# Altium schematic symbol library Logic.SchLib: 13 symbols (part 1 of 4)
Pins are listed as number, name and electrical type; pins without a type are passive.

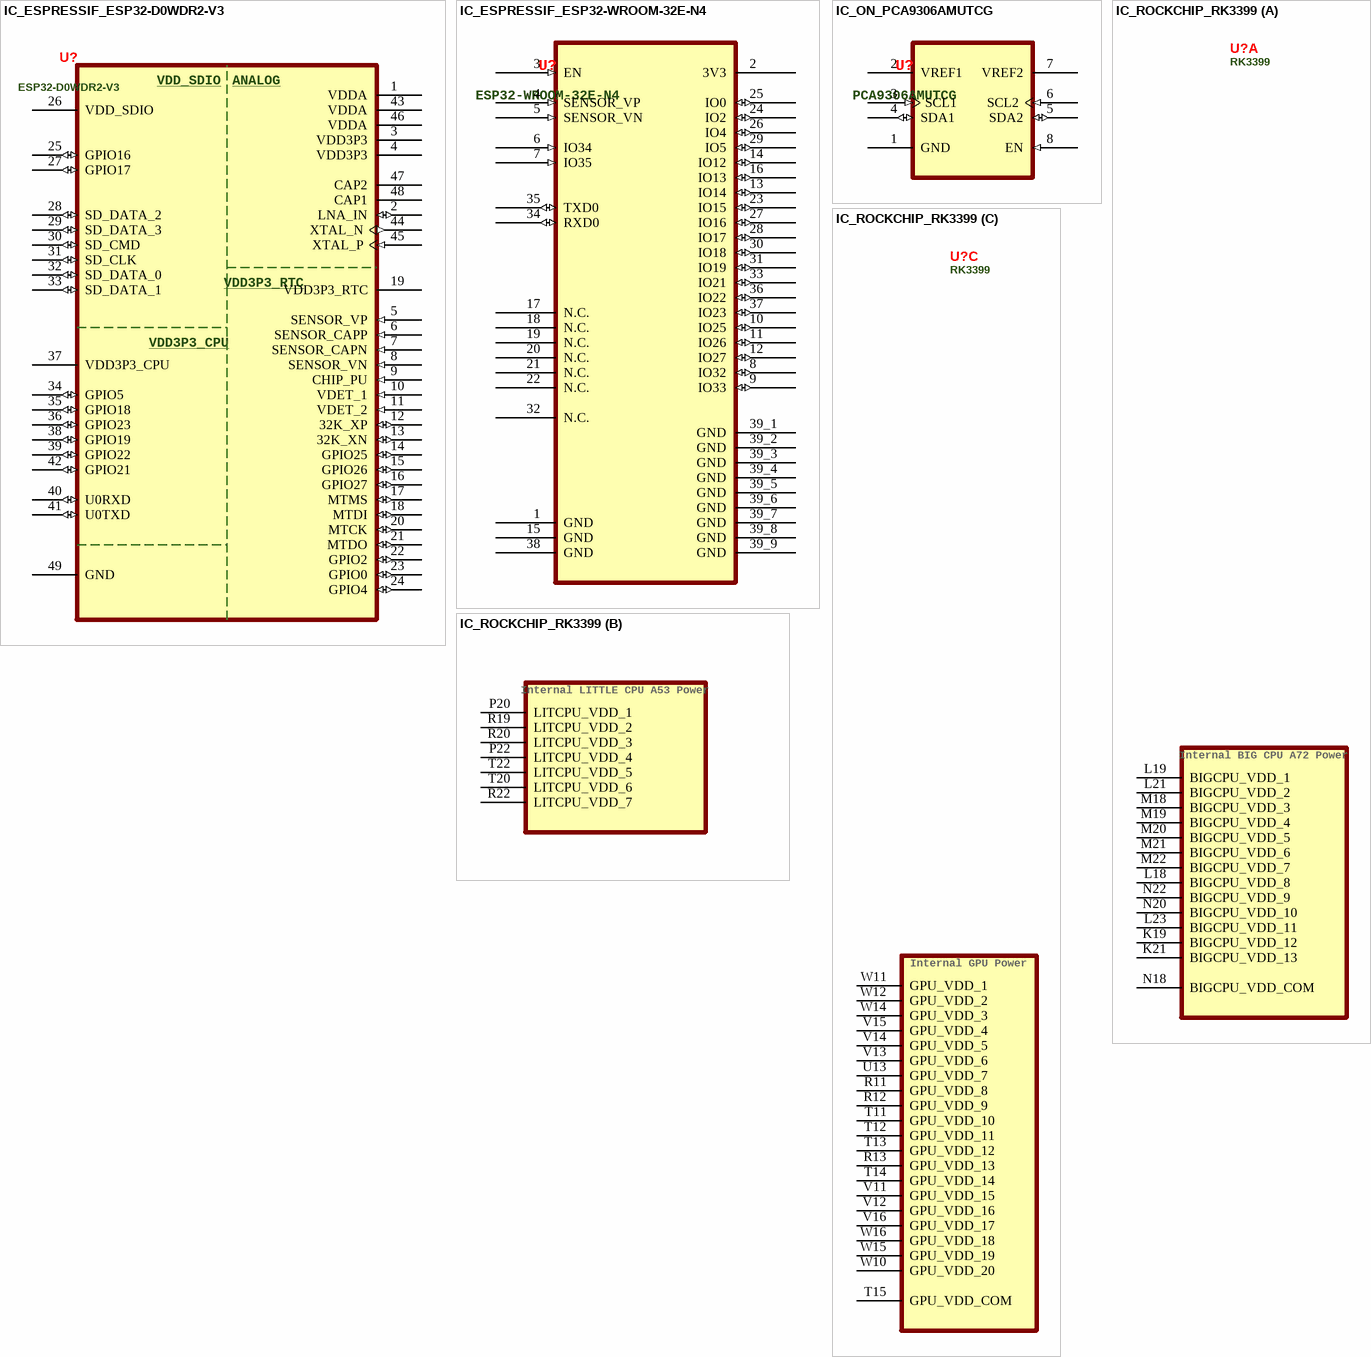
[diagram p0: symbols IC_ESPRESSIF_ESP32-D0WDR2-V3 to IC_ROCKCHIP_RK3399]

## IC_ESPRESSIF_ESP32-D0WDR2-V3
designator U?, comment ESP32-D0WDR2-V3
IC RF TxRx + MCU Bluetooth, WiFi 802.11b/g/n, Bluetooth v4.2 + EDR, Class 1, 2 and 3 2.4GHz 48-VFQFN Exposed Pad; Manufacturer: Espressif Systems; Manufacturer Part Number: ESP32-D0WDR2-V3; Category: RF Transceiver ICs; Min Operating Temperature: -40°C; Max Operating Temperature: 125°C; Case/Package: 48-QFN (5x5); Supplier 1: Digi-Key; Supplier Part Number 1: 1904-ESP32-D0WDR2-V3CT-ND; ComponentLink1Description: Datasheet; ComponentLink1URL: https://www.espressif.com/sites/default/files/documentation/esp32_datasheet_en.pdf
footprint QFN35P500X500X90_HS-49N (QFN, 48-Leads, Body 5.00x5.00mm, Pitch 0.35mm, Thermal Pad 3.70x3.70mm, IPC Medium Density)
footprint QFN35P500X500X90_HS-49L (QFN, 48-Leads, Body 5.00x5.00mm, Pitch 0.35mm, Thermal Pad 3.70x3.70mm, IPC High Density)
footprint QFN35P500X500X90_HS-49M (QFN, 48-Leads, Body 5.00x5.00mm, Pitch 0.35mm, Thermal Pad 3.70x3.70mm, IPC Low Density)
pins: 1 VDDA (power) "Analog power supply (2.3V ~ 3.6V)", 2 LNA_IN (io) "RF input and output", 3 VDD3P3 (power) "Analog power supply (2.3V ~ 3.6V)", 4 VDD3P3 (power) "Analog power supply (2.3V ~ 3.6V)", 5 SENSOR_VP (in) "GPIO36 / ADC1_CH0 / RTC_GPIO0", 6 SENSOR_CAPP (in) "GPIO37 / ADC1_CH1 / RTC_GPIO1", 7 SENSOR_CAPN (in) "GPIO38 / ADC1_CH2 / RTC_GPIO2", 8 SENSOR_VN (in) "GPIO39 / ADC1_CH3 / RTC_GPIO3", 9 CHIP_PU (in) "High: On (enables chip) - Low: Off (chip powers off) - Do not leave pin floating", 10 VDET_1 (in) "GPIO34 / ADC1_CH6 / RTC_GPIO4", 11 VDET_2 (in) "GPIO35 / ADC1_CH7 / RTC_GPIO5", 12 32K_XP (io) "GPIO32 / ADC1_CH4 / RTC_GPIO9 / TOUCH9 / 32.768kHz in)", 13 32K_XN (io) "GPIO33 / ADC1_CH5 / RTC_GPIO8 / TOUCH8 / 32.768kHz out)", 14 GPIO25 (io) "GPIO25 / ADC2_CH8 / RTC_GPIO6 / DAC_1 / EMAC_RXD0", 15 GPIO26 (io) "GPIO26 / ADC2_CH9 / RTC_GPIO7 / DAC_2 / EMAC_RXD1", 16 GPIO27 (io) "GPIO27 / ADC2_CH7 / RTC_GPIO17 / TOUCH7 / EMAC_RX_DV", 17 MTMS (io) "GPIO14 / ADC2_CH6 / RTC_GPIO16 / TOUCH6 / EMAC_TXD2 / HSPICLK / HS2_CLK / SD_CLK / MTMS", 18 MTDI (io) "GPIO12 / ADC2_CH5 / RTC_GPIO15 / TOUCH5 / EMAC_TXD3 / HSPIQ / HS2_DATA2 / SD_DATA2 / MTDI", 19 VDD3P3_RTC (power) "Input power supply for RTC IO (2.3V ~ 3.6V)", 20 MTCK (io) "GPIO13 / ADC2_CH4 / RTC_GPIO14 / TOUCH4 / EMAC_RX_ER / HSPID / HS2_DATA3 / SD_DATA3 / MTCK", 21 MTDO (io) "GPIO15 / ADC2_CH3 / RTC_GPIO13 / TOUCH3 / EMAC_RXD3 / HSPICS0 / HS2_CMD / SD_CMD / MTDO", 22 GPIO2 (io) "GPIO2 / ADC2_CH2 / RTC_GPIO12 / TOUCH2 / HSPIWP / HS2_DATA0 / SD_DATA0", 23 GPIO0 (io) "GPIO0 / ADC2_CH1 / RTC_GPIO11 / TOUCH1 / EMAC_TX_CLK / CLK_OUT1", 24 GPIO4 (io) "GPIO4 / ADC2_CH0 / RTC_GPIO10 / TOUCH0 / EMAC_TX_ER / HSPIHD / HS2_DATA1 / SD_DATA1", 25 GPIO16 (io) "GPIO16 / HS1_DATA4 / U2RXD / EMAC_CLK_OUT", 26 VDD_SDIO (power) "Output power supply; 1.8V or the same voltage as VDD3P3_RTC", 27 GPIO17 (io) "GPIO17 / HS1_DATA5 / U2TXD / EMAC_CLK_OUT_180", 28 SD_DATA_2 (io) "GPIO9 / HS1_DATA2 / U1RXD / SD_DATA2 / SPIHD", 29 SD_DATA_3 (io) "GPIO10 / HS1_DATA3 / U1TXD / SD_DATA3 / SPIWP", 30 SD_CMD (io) "GPIO11 / HS1_CMD / U1RTS / SD_CMD / SPICS0", 31 SD_CLK (io) "GPIO6 / HS1_CLK / U1CTS / SD_CLK / SPICLK", 32 SD_DATA_0 (io) "GPIO7 / HS1_DATA0 / U2RTS / SD_DATA0 / SPIQ", 33 SD_DATA_1 (io) "GPIO8 / HS1_DATA1 / U2CTS / SD_DATA1 / SPID", 34 GPIO5 (io) "GPIO5 / HS1_DATA6 / VSPICS0 / EMAC_RX_CLK", 35 GPIO18 (io) "GPIO18 / HS1_DATA7 / VSPICLK", 36 GPIO23 (io) "GPIO23 / HS1_STROBE / VSPID", 37 VDD3P3_CPU (power) "Input power supply for CPU IO (1.8V ~ 3.6V)", 38 GPIO19 (io) "GPIO19 / U0CTS / VSPIQ / EMAC_TXD0", 39 GPIO22 (io) "GPIO22 / U0RTS / VSPIWP / EMAC_TXD1", 40 U0RXD (io) "GPIO3 / U0RXD / CLK_OUT2", 41 U0TXD (io) "GPIO1 / U0TXD / CLK_OUT3 / EMAC_RXD2", 42 GPIO21 (io) "GPIO21 / VSPIHD / EMAC_TX_EN", 43 VDDA (power) "Analog power supply (2.3V ~ 3.6V)", 44 XTAL_N (out) "External crystal output", 45 XTAL_P (in) "External crystal input", 46 VDDA (power) "Analog power supply (2.3V ~ 3.6V)", 47 CAP2 "Connects to a 3.3nF (10%) capacitor and 20kΩ resistor in parallel to CAP1", 48 CAP1 "Connects to a 10nF series capacitor to ground", 49 GND (power) "Ground"
text: ANALOG

## IC_ESPRESSIF_ESP32-WROOM-32E-N4
designator U?, comment ESP32-WROOM-32E-N4
Bluetooth, WiFi 802.11b/g/n, Bluetooth v4.2 +EDR, Class 1, 2 and 3 Transceiver Module 2.4GHz ~ 2.5GHz Integrated, Trace Surface Mount; Manufacturer: Espressif Systems; Manufacturer Part Number: ESP32-WROOM-32E-N4; Category: RF Transceiver ICs; Case/Package: 38-SMD Module; ComponentLink1Description: Datasheet; ComponentLink1URL: https://www.espressif.com/sites/default/files/documentation/esp32-wroom-32e_esp32-wroom-32ue_datasheet_en.pdf; Max Operating Temperature: 85°C; Min Operating Temperature: -40°C; Supplier 1: Digi-Key; Supplier Part Number 1: 1965-ESP32-WROOM-32E-N4CT-ND; Supplier 2: Mouser; Supplier Part Number 2: 356-ESP32WRM32E132PH
footprint IC_ESPRESSIF_ESP32-WROOM-32E (Module ESP32-WROOM-32E)
pins: 1 GND (power) "Ground", 2 3V3 (power) "Power Supply", 3 EN (in) "High: On (enables chip) - Low: Off (chip powers off) - Do not leave pin floating", 4 SENSOR_VP (in) "GPIO36 / ADC1_CH0 / RTC_GPIO0", 5 SENSOR_VN (in) "GPIO39 / ADC1_CH3 / RTC_GPIO3", 6 IO34 (in) "GPIO34 / ADC1_CH6 / RTC_GPIO4", 7 IO35 (in) "GPIO35 / ADC1_CH7 / RTC_GPIO5", 8 IO32 (io) "GPIO32 / XTAL_32K_P / ADC1_CH4 / TOUCH9 / RTC_GPIO9", 9 IO33 (io) "GPIO33 / XTAL_32K_N / ADC1_CH5 / TOUCH8 / RTC_GPIO8", 10 IO25 (io) "GPIO25 / DAC_1 / ADC2_CH8 / RTC_GPIO6 / EMAC_RXD0", 11 IO26 (io) "GPIO26 / DAC_2 / ADC2_CH9 / RTC_GPIO7 / EMAC_RXD1", 12 IO27 (io) "GPIO27 / ADC2_CH7 / TOUCH7 / RTC_GPIO17 / EMAC_RX_DV", 13 IO14 (io) "GPIO14 / ADC2_CH6 / TOUCH6 / RTC_GPIO16 / MTMS / HSPICLK / HS2_CLK / SD_CLK / EMAC_TXD2", 14 IO12 (io) "GPIO12 / ADC2_CH5 / TOUCH5 / RTC_GPIO15 / MTDI / HSPIQ / HS2_DATA2 / SD_DATA2 / EMAC_TXD3", 15 GND (power) "Ground", 16 IO13 (io) "GPIO13 / ADC2_CH4 / TOUCH4 / RTC_GPIO14 / MTCK / HSPID / HS2_DATA3 / SD_DATA3 / EMAC_RX_ER", 17 N.C. "Not Connected", 18 N.C. "Not Connected", 19 N.C. "Not Connected", 20 N.C. "Not Connected", 21 N.C. "Not Connected", 22 N.C. "Not Connected", 23 IO15 (io) "GPIO15 / ADC2_CH3 / TOUCH3 / MTDO / HSPICS0 / RTC_GPIO13 / HS2_CMD / SD_CMD / EMAC_RXD3", 24 IO2 (io) "GPIO2 / ADC2_CH2 / TOUCH2 / RTC_GPIO12 / HSPIWP / HS2_DATA0 / SD_DATA0", 25 IO0 (io) "GPIO0 / ADC2_CH1 / TOUCH1 / RTC_GPIO11 / CLKOUT1 / EMAC_TX_CLK", 26 IO4 (io) "GPIO4 / ADC2_CH0 / TOUCH0 / RTC_GPIO10 / HSPIHD / HS2_DATA1 / SD_DATA1 / EMAC_TX_ER", 27 IO16 (io) "GPIO16 / HS!_DATA4 / U2RXD / EMAC_CLK_OUT", 28 IO17 (io) "GPIO17 / HS!_DATA5 / U2TXD / EMAC_CLK_OUT_180", 29 IO5 (io) "GPIO5 / VSPICS0 , HS1_DATA6 / EMAC_RX_CLK", 30 IO18 (io) "GPIO18 / VSPICLK / HS1_DATA7", 31 IO19 (io) "GPIO19 / VSPIQ / U0CTS / EMAC_TXD0", 32 N.C. "Not Connected", 33 IO21 (io) "GPIO21 / VSPIHD / EMAC_TX_EN", 34 RXD0 (io) "GPIO3 / U0RXD / CLK_OUT2", 35 TXD0 (io) "GPIO1 / U0TXD / CLK_OUT3 / EMAC_RXD2", 36 IO22 (io) "GPIO22 / VSPIWP / U0RTS / EMAC_TXD1", 37 IO23 (io) "GPIO23 / VSPID / HS1_STROBE", 38 GND (power) "Ground", 39_1 GND (power) "Ground", 39_2 GND (power) "Ground", 39_3 GND (power) "Ground", 39_4 GND (power) "Ground", 39_5 GND (power) "Ground", 39_6 GND (power) "Ground", 39_7 GND (power) "Ground", 39_8 GND (power) "Ground", 39_9 GND (power) "Ground"

## IC_ON_PCA9306AMUTCG
designator U?, comment PCA9306AMUTCG
Voltage Level Translator Bidirectional 1 Circuit 2 Channel 8-UQFN (1.6x1.6); Manufacturer: ON Semiconductor; Max Power Dissipation: 883mW; Max Supply Voltage: 5.5V; Min Supply Voltage: 0V; Propagation Delay: 3.3ns; Number of Circuits: 1; Turn-On Delay Time: 2.5ns; Manufacturer Part Number: PCA9306AMUTCG; Category: Voltage Level Shifters; Min Operating Temperature: -55°C; Max Operating Temperature: 125°C; Logic Function: Translator; Channel Type: Bidirectional; RoHS Compliant: Yes; Case/Package: 8-UQFN (1.6x1.6); Supplier 1: Digi-Key; Supplier Part Number 1: PCA9306AMUTCGOSCT-ND; Supplier 2: Mouser; Supplier Part Number 2: 863-PCA9306AMUTCG; ComponentLink1Description: Datasheet; ComponentLink1URL: https://www.onsemi.com/pdf/datasheet/pca9306-d.pdf
footprint IC_ON_PCA9306AMUTCG (Voltage Level Translator Bidirectional 1 Circuit 2 Channel 8-UQFN (1.6x1.6))
pins: 1 GND (power), 2 VREF1 (power), 3 SCL1 (in), 4 SDA1 (io), 5 SDA2 (io), 6 SCL2 (in), 7 VREF2 (power), 8 EN (in)

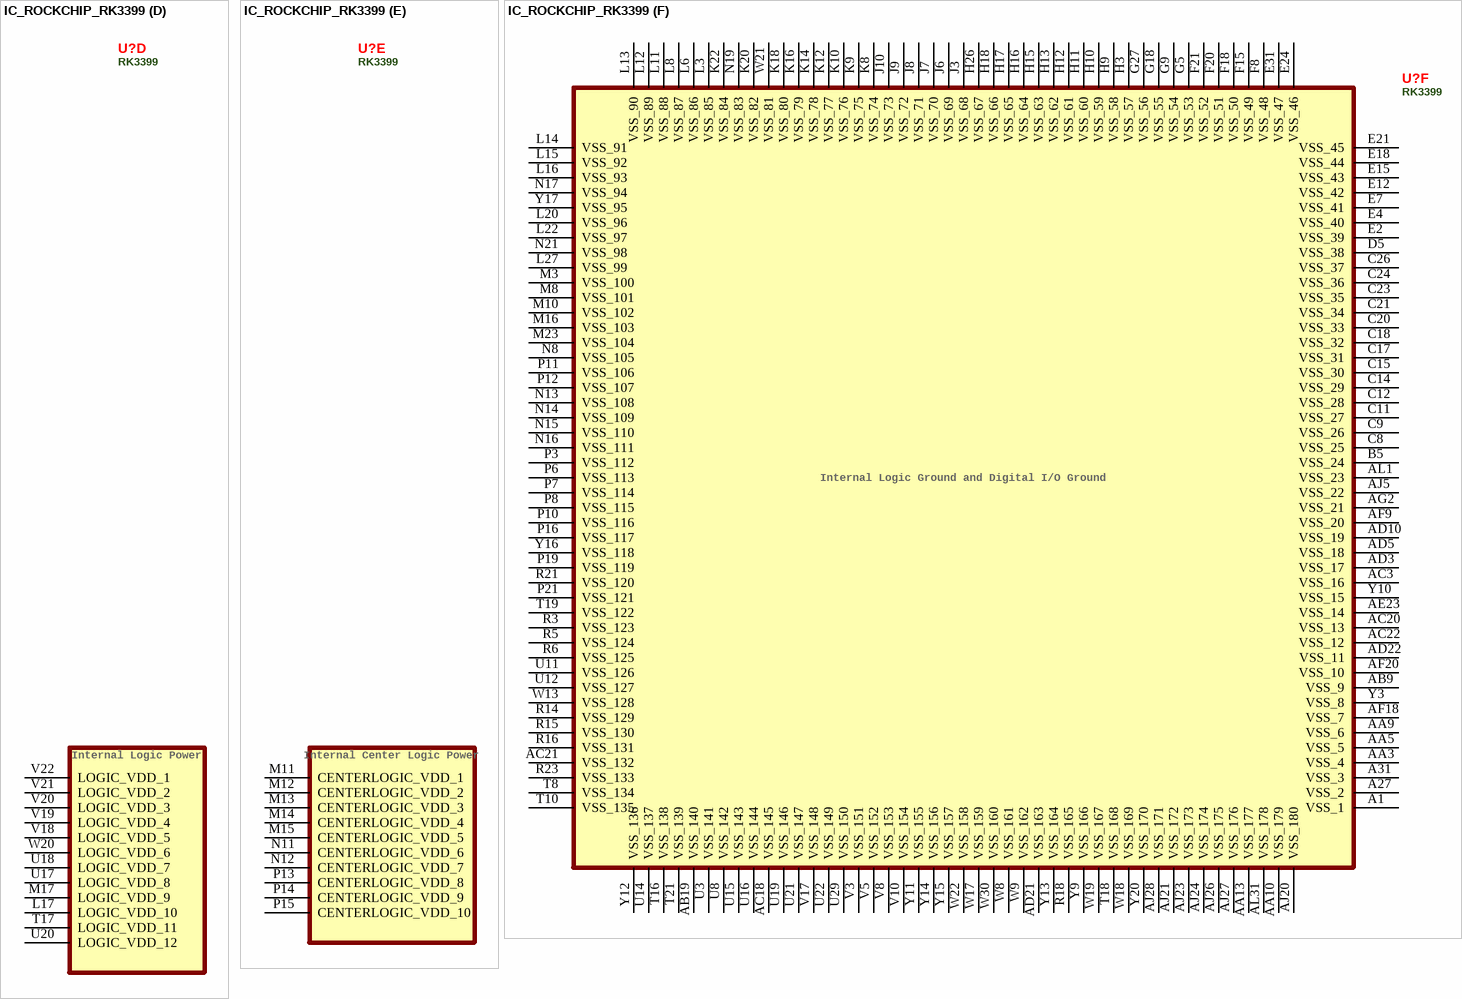
[diagram p1: symbol IC_ROCKCHIP_RK3399]

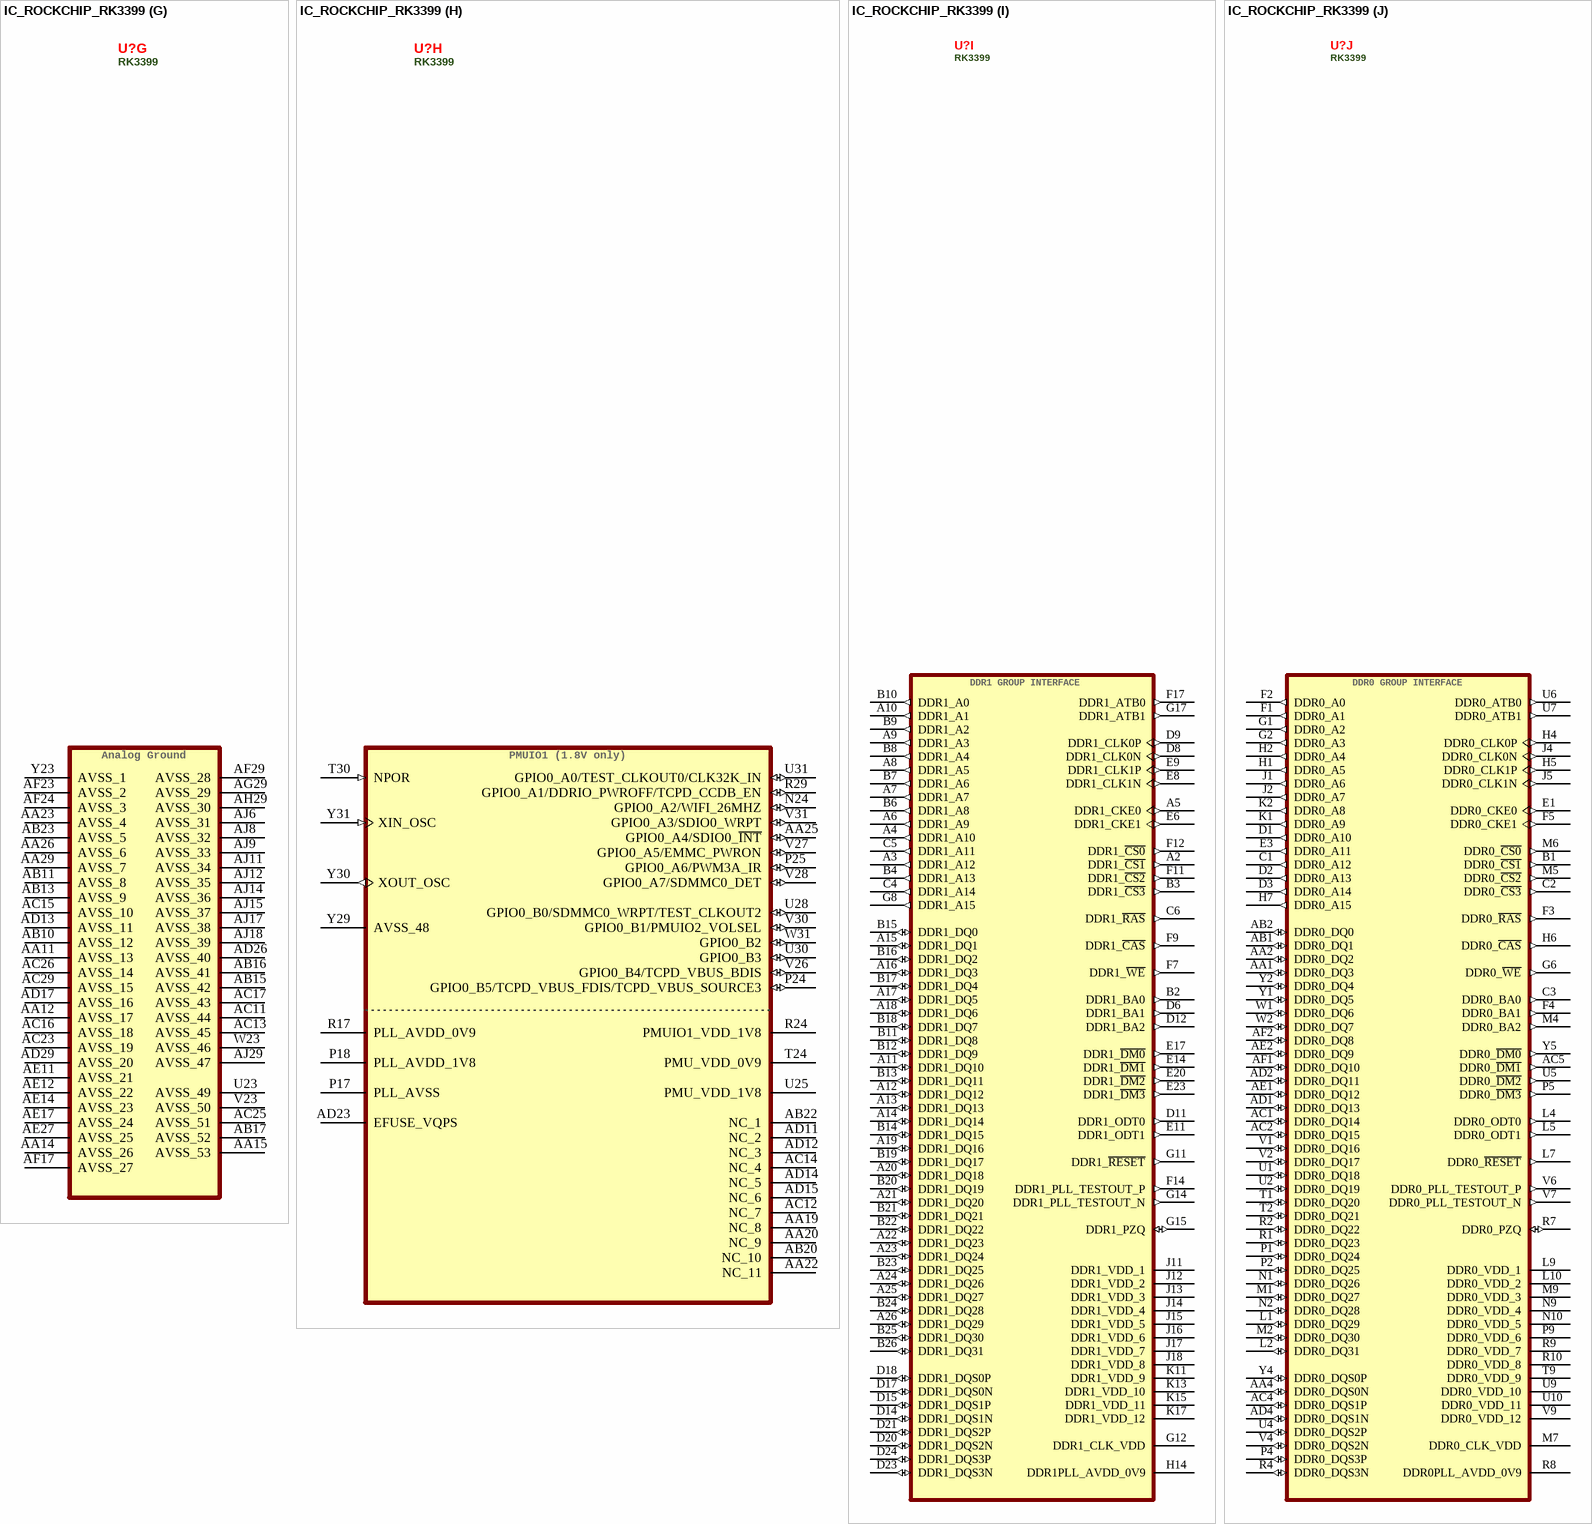
[diagram p2: symbol IC_ROCKCHIP_RK3399]

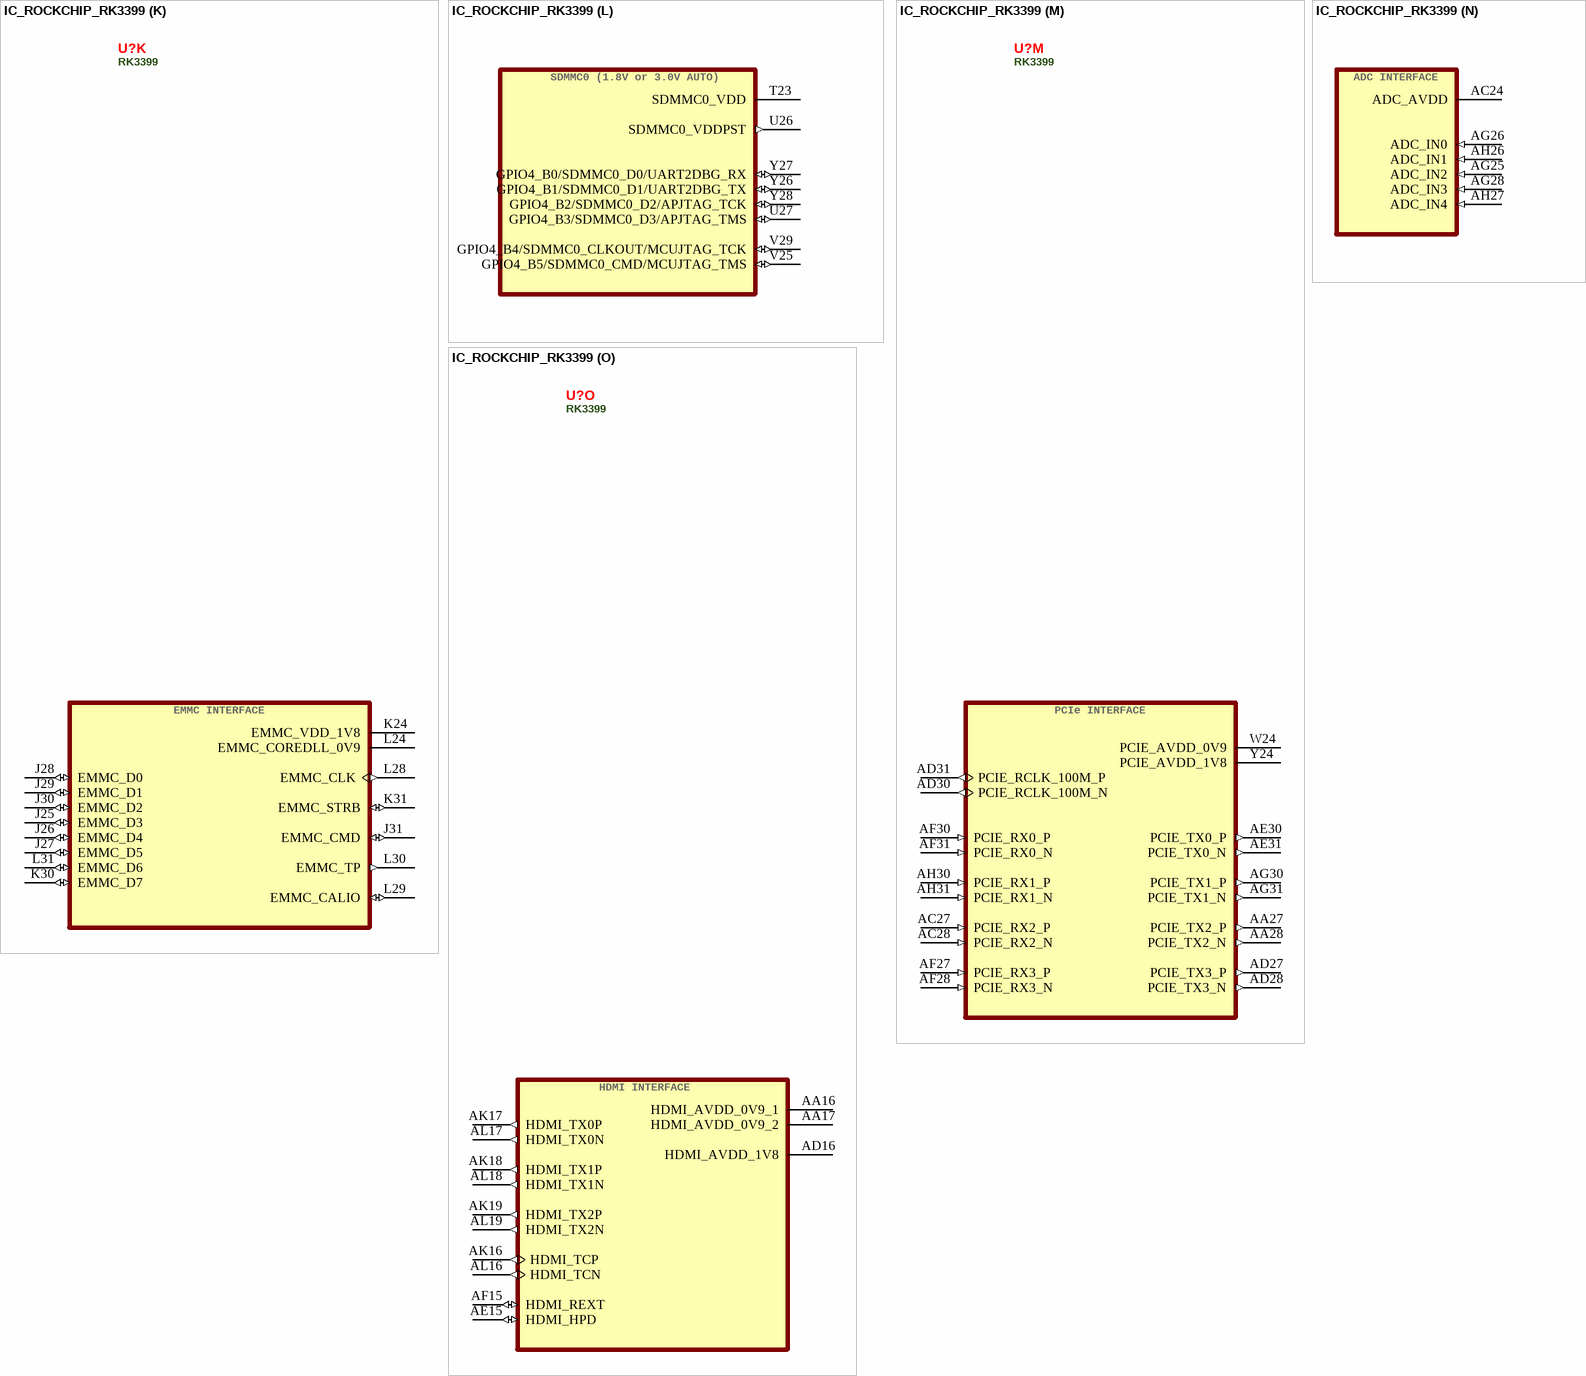
[diagram p3: symbol IC_ROCKCHIP_RK3399]

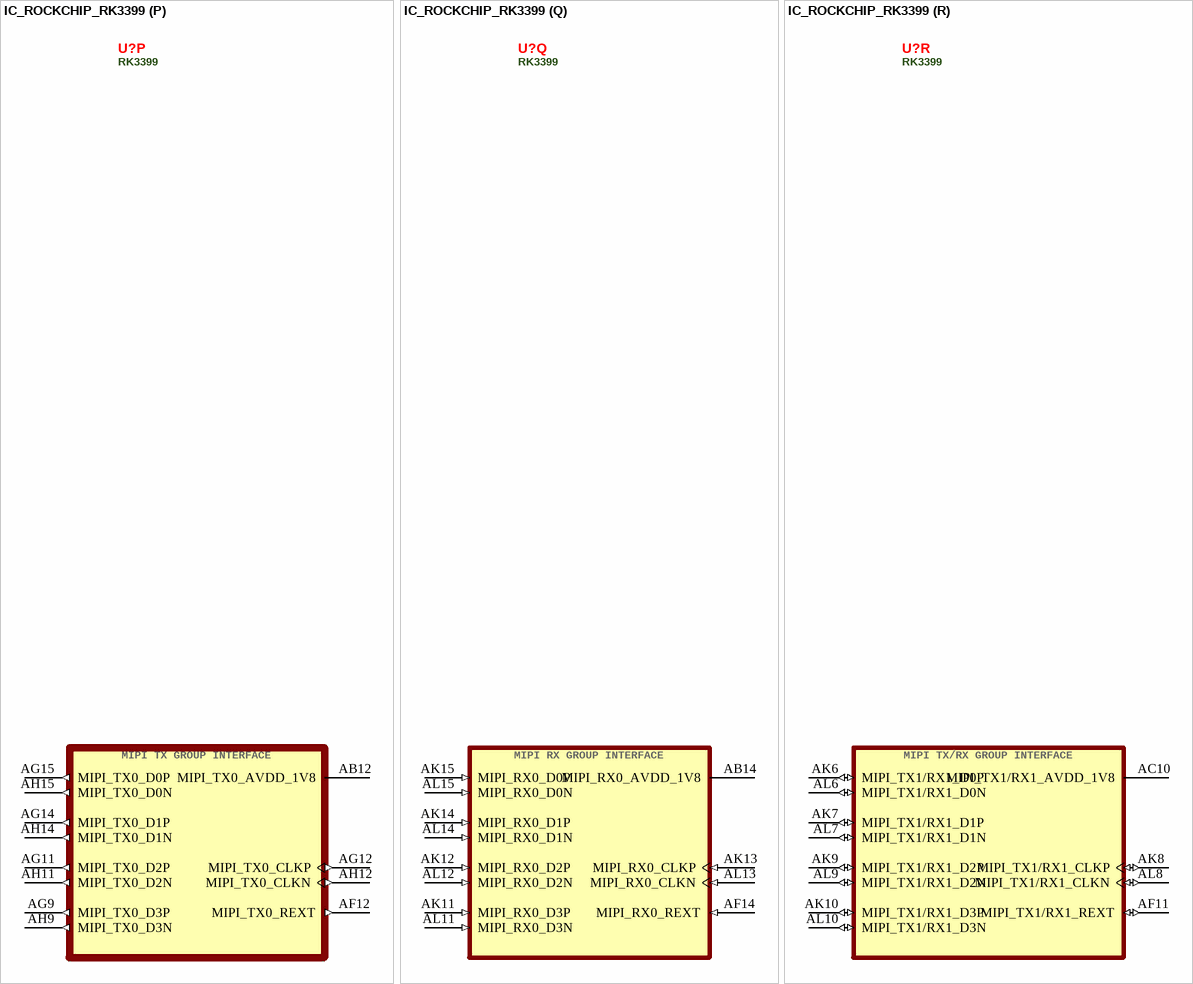
[diagram p4: symbol IC_ROCKCHIP_RK3399]

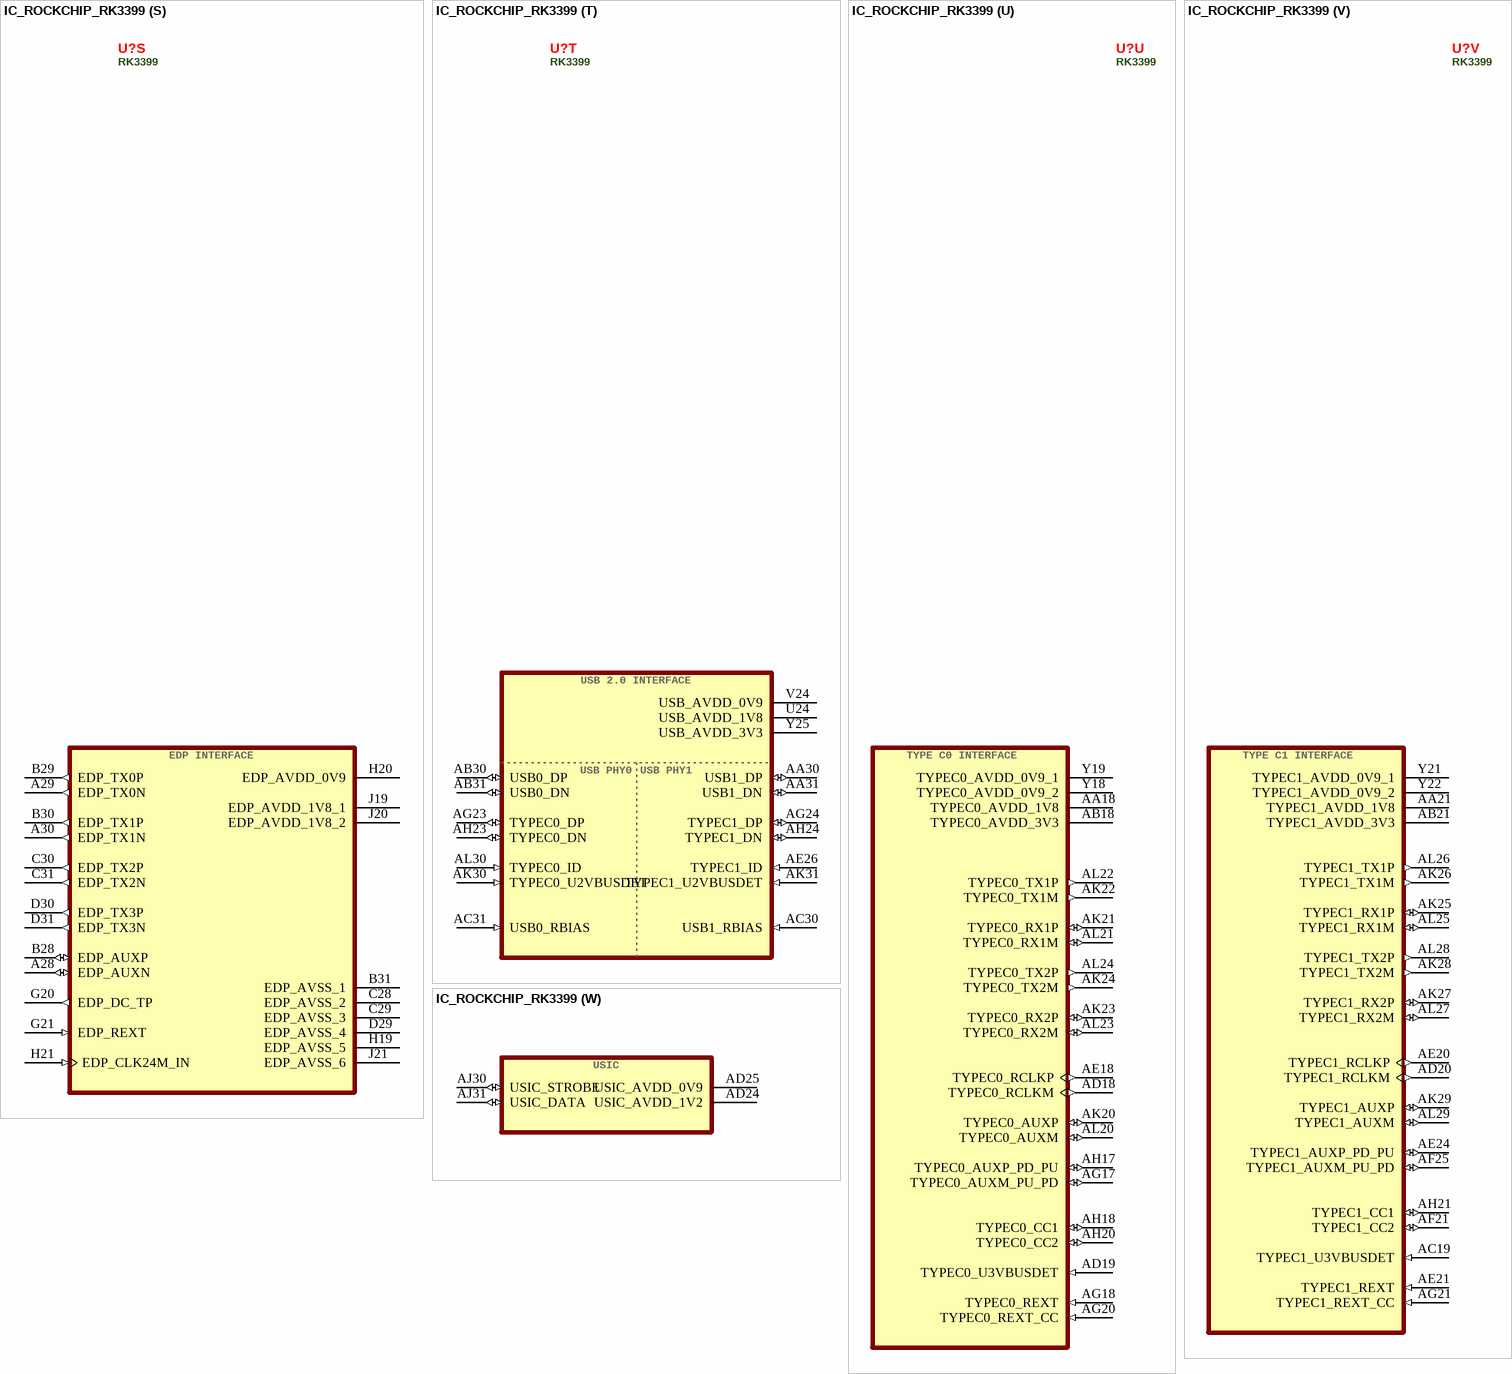
[diagram p5: symbol IC_ROCKCHIP_RK3399]

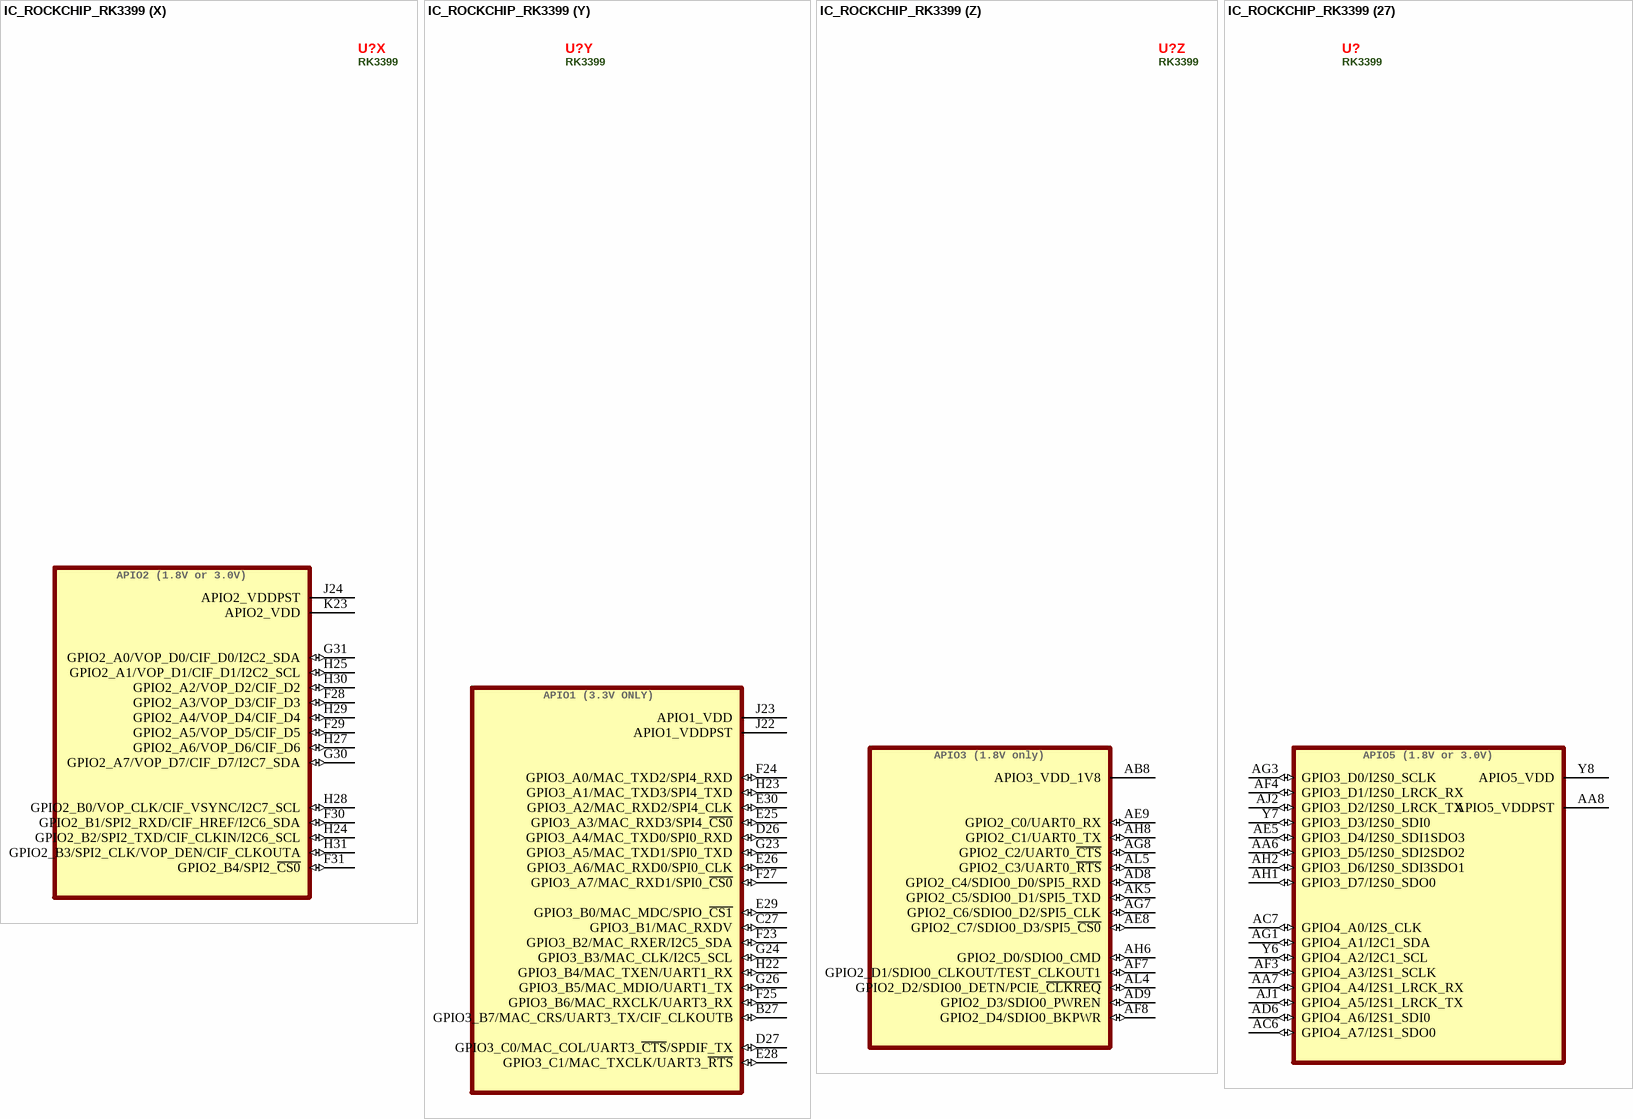
[diagram p6: symbol IC_ROCKCHIP_RK3399]

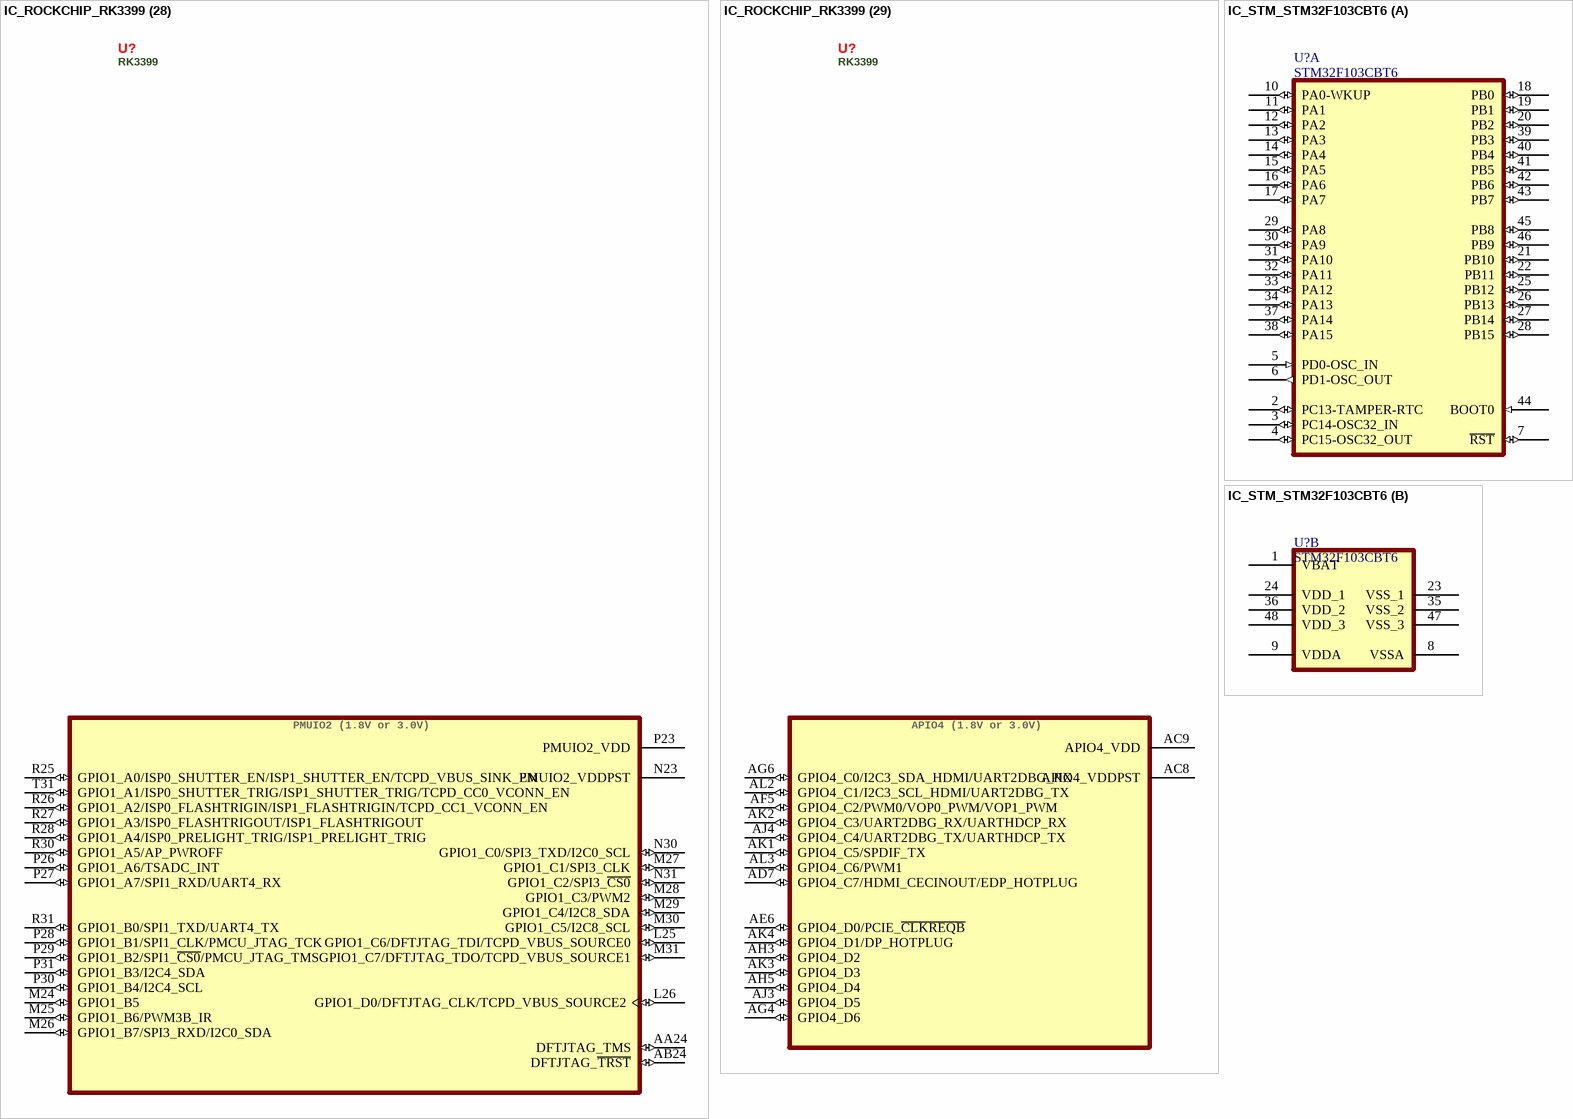
[diagram p7: symbols IC_ROCKCHIP_RK3399 to IC_STM_STM32F103CBT6]